# Altium footprint library 1206 Kemet Capacitor Footprints.PcbLib: 10 footprints
Each footprint in its own frame and in the unit in brackets; x right, y up, seen from the top. Pads: shape width x height; smd on the part's side, far side on the other; paste and mask are expansions set on the pad; w line width, h text height; cw(c..) or ccw(c..) is an arc to the next point about the centre after c.
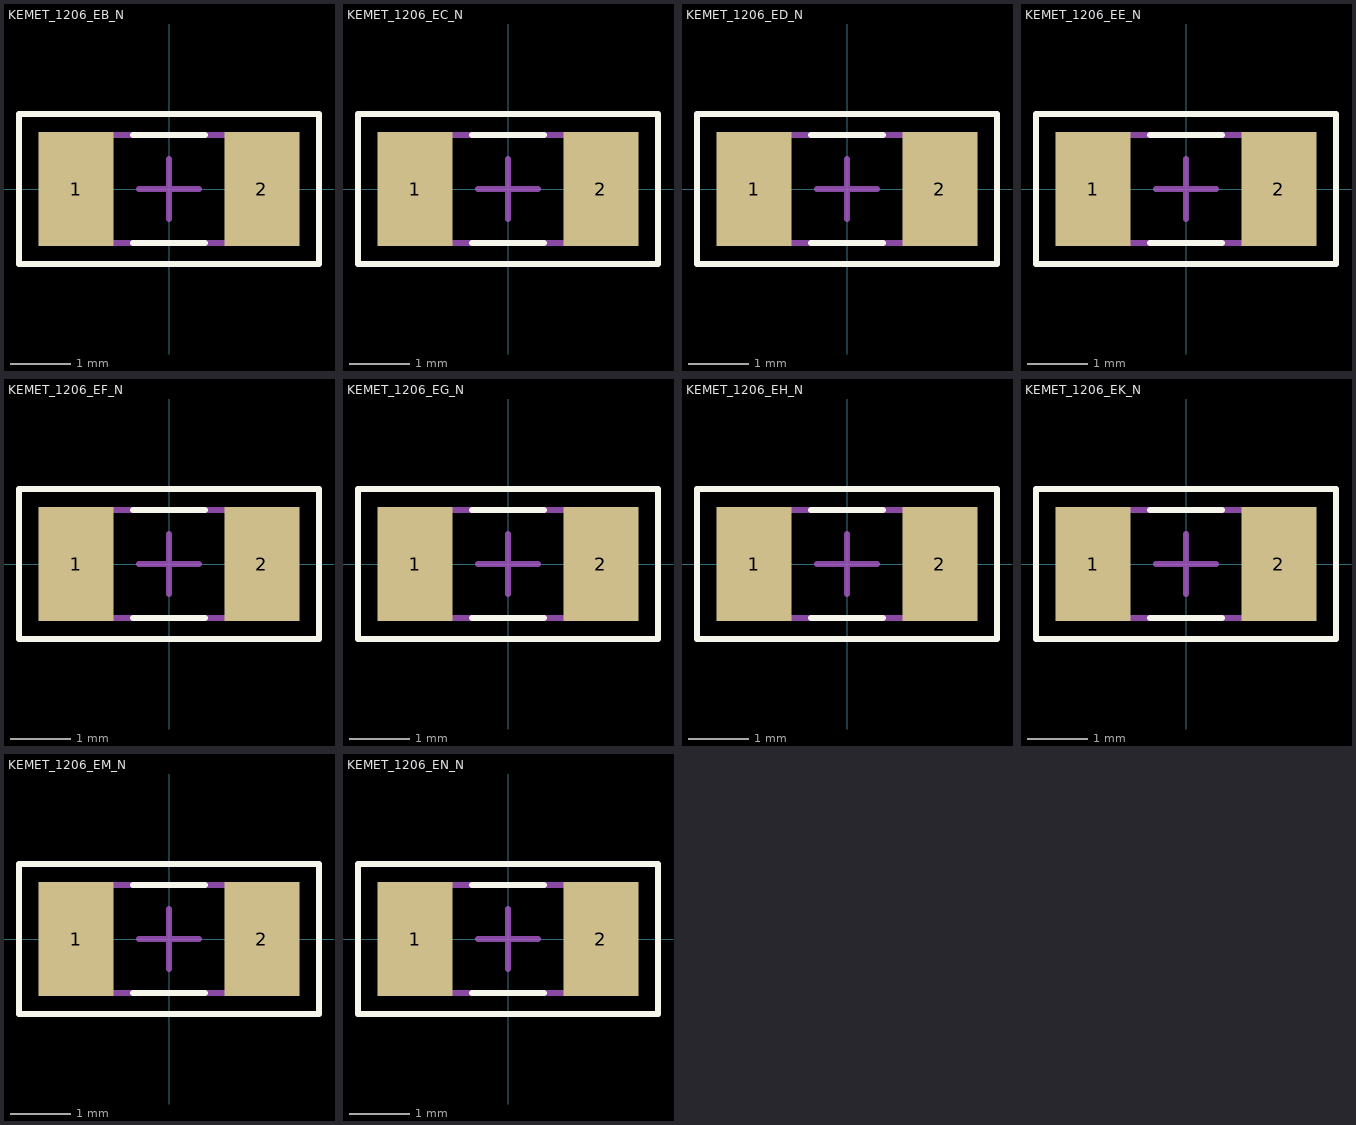
[diagram p0: the footprints below, top view; thin cyan lines are the x and y axes]

## KEMET_1206_EB_N [mm] "Chip Capacitor, 2-Leads, Body 3.2x1.6mm, IPC Medium Density"
height 0.88
pads (2):
  rect 1.25x1.9 smd: 1(-1.55,0) 2(1.55,0)
Top Overlay:
  lines w0.1: -0.6,-0.9 0.6,-0.9 ; -0.6,0.9 0.6,0.9 ; -2.5,-1.25 2.5,-1.25 2.5,1.25 -2.5,1.25 -2.5,-1.25
Mechanical 13:
  lines w0.1: -1.7,-0.9 -1.7,0.9 1.7,0.9 1.7,-0.9 -1.7,-0.9
Mechanical 15:
  lines w0.1: -0.5,0 0.5,0 ; 0,-0.5 0,0.5 ; -2.5,-1.25 -2.5,1.25 2.5,1.25 2.5,-1.25 -2.5,-1.25
3D body: height 0.88, standoff 0, extent -1.7,-0.9 1.7,0.9

## KEMET_1206_EC_N [mm] "Chip Capacitor, 2-Leads, Body 3.2x1.6mm, IPC Medium Density"
height 1
pads (2):
  rect 1.25x1.9 smd: 1(-1.55,0) 2(1.55,0)
Top Overlay:
  lines w0.1: -0.6,-0.9 0.6,-0.9 ; -0.6,0.9 0.6,0.9 ; -2.5,-1.25 2.5,-1.25 2.5,1.25 -2.5,1.25 -2.5,-1.25
Mechanical 13:
  lines w0.1: -1.7,-0.9 -1.7,0.9 1.7,0.9 1.7,-0.9 -1.7,-0.9
Mechanical 15:
  lines w0.1: -0.5,0 0.5,0 ; 0,-0.5 0,0.5 ; -2.5,-1.25 -2.5,1.25 2.5,1.25 2.5,-1.25 -2.5,-1.25
3D body: height 1, standoff 0, extent -1.7,-0.9 1.7,0.9

## KEMET_1206_ED_N [mm] "Chip Capacitor, 2-Leads, Body 3.2x1.6mm, IPC Medium Density"
height 1.1
pads (2):
  rect 1.25x1.9 smd: 1(-1.55,0) 2(1.55,0)
Top Overlay:
  lines w0.1: -0.6,-0.9 0.6,-0.9 ; -0.6,0.9 0.6,0.9 ; -2.5,-1.25 -2.5,1.25 2.5,1.25 2.5,-1.25 -2.5,-1.25
Mechanical 13:
  lines w0.1: -1.7,-0.9 1.7,-0.9 1.7,0.9 -1.7,0.9 -1.7,-0.9
Mechanical 15:
  lines w0.1: -0.5,0 0.5,0 ; 0,-0.5 0,0.5 ; -2.5,-1.25 2.5,-1.25 2.5,1.25 -2.5,1.25 -2.5,-1.25
3D body: height 1.1, standoff 0, extent -1.7,-0.9 1.7,0.9

## KEMET_1206_EE_N [mm] "Chip Capacitor, 2-Leads, Body 3.2x1.6mm, IPC Medium Density"
height 1.2
pads (2):
  rect 1.25x1.9 smd: 1(-1.55,0) 2(1.55,0)
Top Overlay:
  lines w0.1: -0.6,-0.9 0.6,-0.9 ; -0.6,0.9 0.6,0.9 ; -2.5,-1.25 2.5,-1.25 2.5,1.25 -2.5,1.25 -2.5,-1.25
Mechanical 13:
  lines w0.1: -1.7,-0.9 -1.7,0.9 1.7,0.9 1.7,-0.9 -1.7,-0.9
Mechanical 15:
  lines w0.1: -0.5,0 0.5,0 ; 0,-0.5 0,0.5 ; -2.5,-1.25 -2.5,1.25 2.5,1.25 2.5,-1.25 -2.5,-1.25
3D body: height 1.2, standoff 0, extent -1.7,-0.9 1.7,0.9

## KEMET_1206_EF_N [mm] "Chip Capacitor, 2-Leads, Body 3.2x1.6mm, IPC Medium Density"
height 1.35
pads (2):
  rect 1.25x1.9 smd: 1(-1.55,0) 2(1.55,0)
Top Overlay:
  lines w0.1: -0.6,-0.9 0.6,-0.9 ; -0.6,0.9 0.6,0.9 ; -2.5,-1.25 2.5,-1.25 2.5,1.25 -2.5,1.25 -2.5,-1.25
Mechanical 13:
  lines w0.1: -1.7,-0.9 -1.7,0.9 1.7,0.9 1.7,-0.9 -1.7,-0.9
Mechanical 15:
  lines w0.1: -0.5,0 0.5,0 ; 0,-0.5 0,0.5 ; -2.5,-1.25 -2.5,1.25 2.5,1.25 2.5,-1.25 -2.5,-1.25
3D body: height 1.35, standoff 0, extent -1.7,-0.9 1.7,0.9

## KEMET_1206_EG_N [mm] "Chip Capacitor, 2-Leads, Body 3.2x1.6mm, IPC Medium Density"
height 1.75
pads (2):
  rect 1.25x1.9 smd: 1(-1.55,0) 2(1.55,0)
Top Overlay:
  lines w0.1: -0.6,-0.9 0.6,-0.9 ; -0.6,0.9 0.6,0.9 ; -2.5,-1.25 -2.5,1.25 2.5,1.25 2.5,-1.25 -2.5,-1.25
Mechanical 13:
  lines w0.1: -1.7,-0.9 1.7,-0.9 1.7,0.9 -1.7,0.9 -1.7,-0.9
Mechanical 15:
  lines w0.1: -0.5,0 0.5,0 ; 0,-0.5 0,0.5 ; -2.5,-1.25 2.5,-1.25 2.5,1.25 -2.5,1.25 -2.5,-1.25
3D body: height 1.75, standoff 0, extent -1.7,-0.9 1.7,0.9

## KEMET_1206_EH_N [mm] "Chip Capacitor, 2-Leads, Body 3.2x1.6mm, IPC Medium Density"
height 1.8
pads (2):
  rect 1.25x1.9 smd: 1(-1.55,0) 2(1.55,0)
Top Overlay:
  lines w0.1: -0.6,-0.9 0.6,-0.9 ; -0.6,0.9 0.6,0.9 ; -2.5,-1.25 -2.5,1.25 2.5,1.25 2.5,-1.25 -2.5,-1.25
Mechanical 13:
  lines w0.1: -1.7,-0.9 1.7,-0.9 1.7,0.9 -1.7,0.9 -1.7,-0.9
Mechanical 15:
  lines w0.1: -0.5,0 0.5,0 ; 0,-0.5 0,0.5 ; -2.5,-1.25 2.5,-1.25 2.5,1.25 -2.5,1.25 -2.5,-1.25
3D body: height 1.1, standoff 0, extent -1.7,-0.9 1.7,0.9

## KEMET_1206_EK_N [mm] "Chip Capacitor, 2-Leads, Body 3.2x1.6mm, IPC Medium Density"
height 0.9
pads (2):
  rect 1.25x1.9 smd: 1(-1.55,0) 2(1.55,0)
Top Overlay:
  lines w0.1: -0.6,-0.9 0.6,-0.9 ; -0.6,0.9 0.6,0.9 ; -2.5,-1.25 -2.5,1.25 2.5,1.25 2.5,-1.25 -2.5,-1.25
Mechanical 13:
  lines w0.1: -1.7,-0.9 1.7,-0.9 1.7,0.9 -1.7,0.9 -1.7,-0.9
Mechanical 15:
  lines w0.1: -0.5,0 0.5,0 ; 0,-0.5 0,0.5 ; -2.5,-1.25 2.5,-1.25 2.5,1.25 -2.5,1.25 -2.5,-1.25
3D body: height 0.9, standoff 0, extent -1.7,-0.9 1.7,0.9

## KEMET_1206_EM_N [mm] "Chip Capacitor, 2-Leads, Body 3.2x1.6mm, IPC Medium Density"
height 1.4
pads (2):
  rect 1.25x1.9 smd: 1(-1.55,0) 2(1.55,0)
Top Overlay:
  lines w0.1: -0.6,-0.9 0.6,-0.9 ; -0.6,0.9 0.6,0.9 ; -2.5,-1.25 -2.5,1.25 2.5,1.25 2.5,-1.25 -2.5,-1.25
Mechanical 13:
  lines w0.1: -1.7,-0.9 1.7,-0.9 1.7,0.9 -1.7,0.9 -1.7,-0.9
Mechanical 15:
  lines w0.1: -0.5,0 0.5,0 ; 0,-0.5 0,0.5 ; -2.5,-1.25 2.5,-1.25 2.5,1.25 -2.5,1.25 -2.5,-1.25
3D body: height 1.4, standoff 0, extent -1.7,-0.9 1.7,0.9

## KEMET_1206_EN_N [mm] "Chip Capacitor, 2-Leads, Body 3.2x1.6mm, IPC Medium Density"
height 1.05
pads (2):
  rect 1.25x1.9 smd: 1(-1.55,0) 2(1.55,0)
Top Overlay:
  lines w0.1: -0.6,-0.9 0.6,-0.9 ; -0.6,0.9 0.6,0.9 ; -2.5,-1.25 2.5,-1.25 2.5,1.25 -2.5,1.25 -2.5,-1.25
Mechanical 13:
  lines w0.1: -1.7,-0.9 -1.7,0.9 1.7,0.9 1.7,-0.9 -1.7,-0.9
Mechanical 15:
  lines w0.1: -0.5,0 0.5,0 ; 0,-0.5 0,0.5 ; -2.5,-1.25 -2.5,1.25 2.5,1.25 2.5,-1.25 -2.5,-1.25
3D body: height 1.05, standoff 0, extent -1.7,-0.9 1.7,0.9